# EAGLE library part STONE_ST-M5451 (library lightuino3.lbrlightuino3.1)
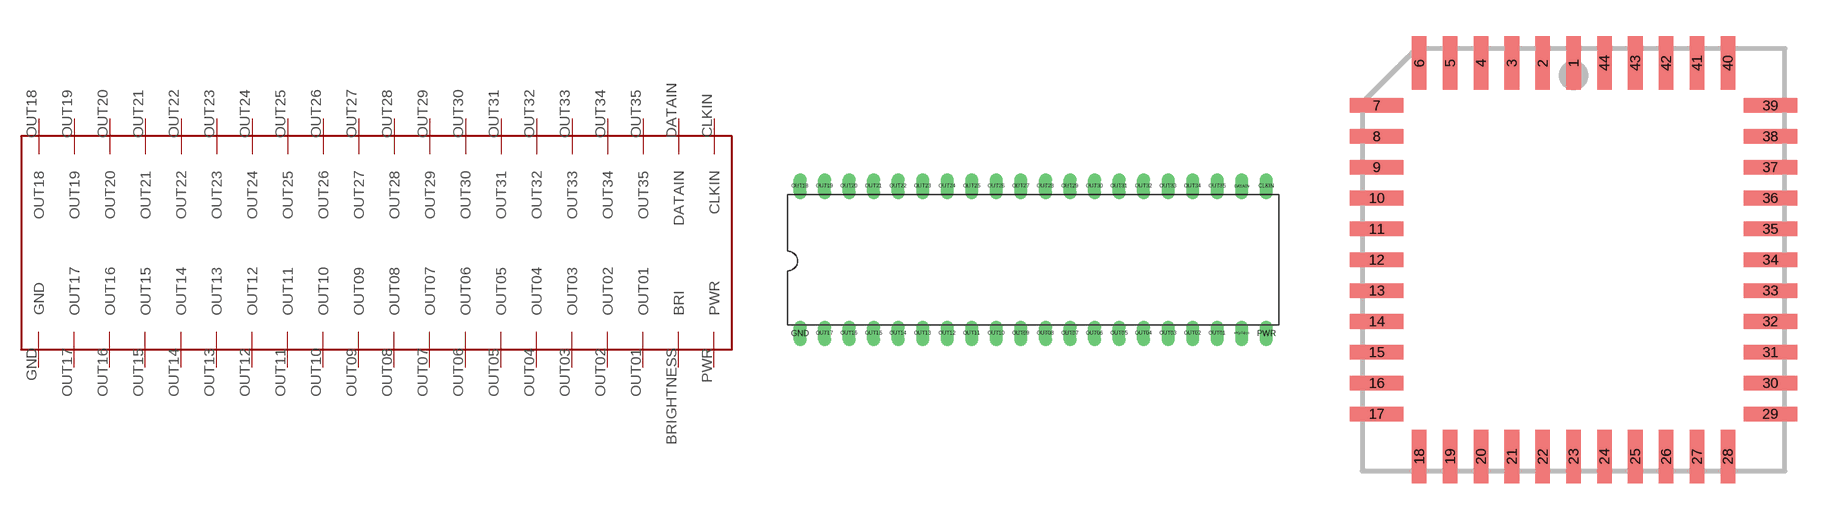
[diagram p7: symbol with the pads of STONE_DIL40; footprints STONE_DIL40, PLCC44]

Designator prefix -; gates G$1=STONE_M5451 G$2=STONE_M5451 G$3=STONE_M5450

## STONE_ST-M5451PDIP40  [STONE_DIL40]
BRIGHTNESS  G$3:BRI
CLKIN  G$3:CLKIN
DATAIN  G$3:DATAIN
GND  G$3:GND
OUT01  G$3:OUT01
OUT02  G$3:OUT02
OUT03  G$3:OUT03
OUT04  G$3:OUT04
OUT05  G$3:OUT05
OUT06  G$3:OUT06
OUT07  G$3:OUT07
OUT08  G$3:OUT08
OUT09  G$3:OUT09
OUT10  G$3:OUT10
OUT11  G$3:OUT11
OUT12  G$3:OUT12
OUT13  G$3:OUT13
OUT14  G$3:OUT14
OUT15  G$3:OUT15
OUT16  G$3:OUT16
OUT17  G$3:OUT17
OUT18  G$3:OUT18
OUT19  G$3:OUT19
OUT20  G$3:OUT20
OUT21  G$3:OUT21
OUT22  G$3:OUT22
OUT23  G$3:OUT23
OUT24  G$3:OUT24
OUT25  G$3:OUT25
OUT26  G$3:OUT26
OUT27  G$3:OUT27
OUT28  G$3:OUT28
OUT29  G$3:OUT29
OUT30  G$3:OUT30
OUT31  G$3:OUT31
OUT32  G$3:OUT32
OUT33  G$3:OUT33
OUT34  G$3:OUT34
OUT35  G$3:OUT35
PWR  G$3:PWR

## STONE_ST-M5451  [PLCC44]
2  G$3:GND
3  G$3:OUT17
4  G$3:OUT16
5  G$3:OUT15
6  G$3:OUT14
7  G$3:OUT13
8  G$3:OUT12
9  G$3:OUT11
10  G$3:OUT10
11  G$3:OUT09
13  G$3:OUT08
14  G$3:OUT07
15  G$3:OUT06
16  G$3:OUT05
17  G$3:OUT04
18  G$3:OUT03
19  G$3:OUT02
20  G$3:OUT01
21  G$3:BRI
22  G$3:PWR
24  G$3:CLKIN
25  G$3:DATAIN
26  G$3:OUT35
27  G$3:OUT34
28  G$3:OUT33
29  G$3:OUT32
30  G$3:OUT31
31  G$3:OUT30
32  G$3:OUT29
33  G$3:OUT28
35  G$3:OUT27
36  G$3:OUT26
37  G$3:OUT25
38  G$3:OUT24
39  G$3:OUT23
40  G$3:OUT22
41  G$3:OUT21
42  G$3:OUT20
43  G$3:OUT19
44  G$3:OUT18

## Footprint STONE_DIL40 (pad centres in mm)
Dual In Line Package
drill 0.813 long: BRIGHTNESS 21.59,-7.62; CLKIN 24.13,7.62; DATAIN 21.59,7.62; GND -24.13,-7.62; OUT01 19.05,-7.62; OUT02 16.51,-7.62; OUT03 13.97,-7.62; OUT04 11.43,-7.62; OUT05 8.89,-7.62; OUT06 6.35,-7.62; OUT07 3.81,-7.62; OUT08 1.27,-7.62; OUT09 -1.27,-7.62; OUT10 -3.81,-7.62; OUT11 -6.35,-7.62; OUT12 -8.89,-7.62; OUT13 -11.43,-7.62; OUT14 -13.97,-7.62; OUT15 -16.51,-7.62; OUT16 -19.05,-7.62; OUT17 -21.59,-7.62; OUT18 -24.13,7.62; OUT19 -21.59,7.62; OUT20 -19.05,7.62; OUT21 -16.51,7.62; OUT22 -13.97,7.62; OUT23 -11.43,7.62; OUT24 -8.89,7.62; OUT25 -6.35,7.62; OUT26 -3.81,7.62; OUT27 -1.27,7.62; OUT28 1.27,7.62; OUT29 3.81,7.62; OUT30 6.35,7.62; OUT31 8.89,7.62; OUT32 11.43,7.62; OUT33 13.97,7.62; OUT34 16.51,7.62; OUT35 19.05,7.62; PWR 24.13,-7.62

## Footprint PLCC44 (pad centres in mm)
PLASTIC LEADED CHIP CARRIER square
smd 0.6 x 2.2: 1 0,8.1; 2 -1.27,8.1; 3 -2.54,8.1; 4 -3.81,8.1; 5 -5.08,8.1; 6 -6.35,8.1; 18 -6.35,-8.1; 19 -5.08,-8.1; 20 -3.81,-8.1; 21 -2.54,-8.1; 22 -1.27,-8.1; 23 0,-8.1; 24 1.27,-8.1; 25 2.54,-8.1; 26 3.81,-8.1; 27 5.08,-8.1; 28 6.35,-8.1; 40 6.35,8.1; 41 5.08,8.1; 42 3.81,8.1; 43 2.54,8.1; 44 1.27,8.1
smd 2.2 x 0.6: 7 -8.1,6.35; 8 -8.1,5.08; 9 -8.1,3.81; 10 -8.1,2.54; 11 -8.1,1.27; 12 -8.1,0; 13 -8.1,-1.27; 14 -8.1,-2.54; 15 -8.1,-3.81; 16 -8.1,-5.08; 17 -8.1,-6.35; 29 8.1,-6.35; 30 8.1,-5.08; 31 8.1,-3.81; 32 8.1,-2.54; 33 8.1,-1.27; 34 8.1,0; 35 8.1,1.27; 36 8.1,2.54; 37 8.1,3.81; 38 8.1,5.08; 39 8.1,6.35